# Altium schematic symbol library NXP系列单片机.SchLib: 1 symbol
Pins are listed as number, name and electrical type; pins without a type are passive.

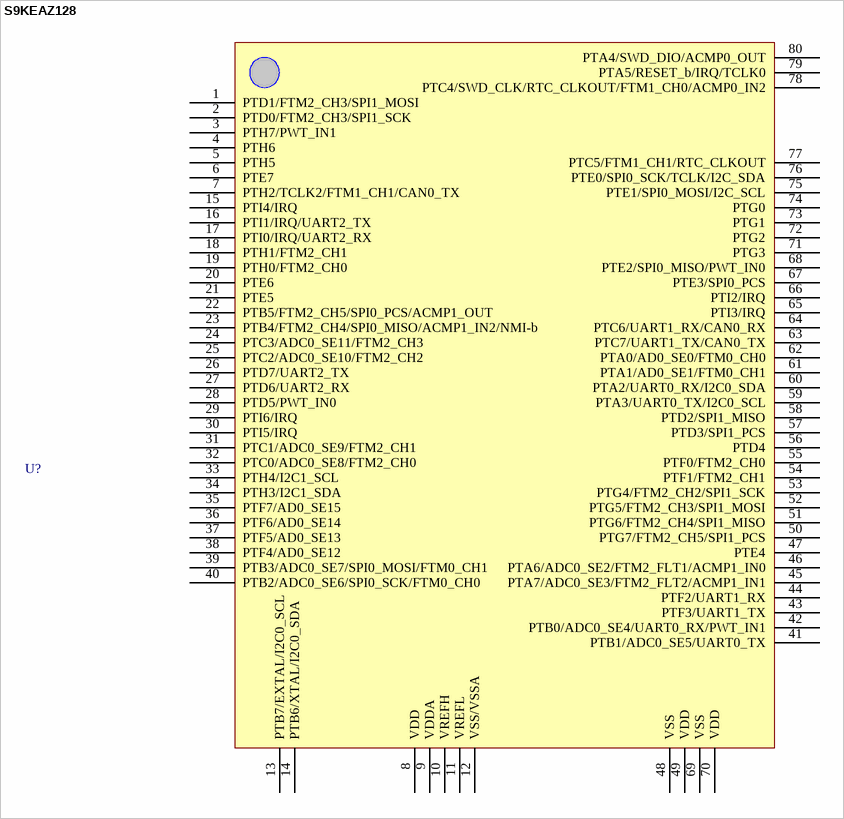
[diagram p0: symbol S9KEAZ128]

## S9KEAZ128
designator U?  (value not drawn)
32恩智浦单片机
footprint LQFP80 14x14_L (80脚，体宽14x14mm，脚距0.65mm)
pins: 1 PTD1/FTM2_CH3/SPI1_MOSI, 2 PTD0/FTM2_CH3/SPI1_SCK, 3 PTH7/PWT_IN1, 4 PTH6, 5 PTH5, 6 PTE7, 7 PTH2/TCLK2/FTM1_CH1/CAN0_TX, 8 VDD, 9 VDDA, 10 VREFH, 11 VREFL, 12 VSS/VSSA, 13 PTB7/EXTAL/I2C0_SCL, 14 PTB6/XTAL/I2C0_SDA, 15 PTI4/IRQ, 16 PTI1/IRQ/UART2_TX, 17 PTI0/IRQ/UART2_RX, 18 PTH1/FTM2_CH1, 19 PTH0/FTM2_CH0, 20 PTE6, 21 PTE5, 22 PTB5/FTM2_CH5/SPI0_PCS/ACMP1_OUT, 23 PTB4/FTM2_CH4/SPI0_MISO/ACMP1_IN2/NMI-b, 24 PTC3/ADC0_SE11/FTM2_CH3, 25 PTC2/ADC0_SE10/FTM2_CH2, 26 PTD7/UART2_TX, 27 PTD6/UART2_RX, 28 PTD5/PWT_IN0, 29 PTI6/IRQ, 30 PTI5/IRQ, 31 PTC1/ADC0_SE9/FTM2_CH1, 32 PTC0/ADC0_SE8/FTM2_CH0, 33 PTH4/I2C1_SCL, 34 PTH3/I2C1_SDA, 35 PTF7/AD0_SE15, 36 PTF6/AD0_SE14, 37 PTF5/AD0_SE13, 38 PTF4/AD0_SE12, 39 PTB3/ADC0_SE7/SPI0_MOSI/FTM0_CH1, 40 PTB2/ADC0_SE6/SPI0_SCK/FTM0_CH0, 41 PTB1/ADC0_SE5/UART0_TX, 42 PTB0/ADC0_SE4/UART0_RX/PWT_IN1, 43 PTF3/UART1_TX, 44 PTF2/UART1_RX, 45 PTA7/ADC0_SE3/FTM2_FLT2/ACMP1_IN1, 46 PTA6/ADC0_SE2/FTM2_FLT1/ACMP1_IN0, 47 PTE4, 48 VSS, 49 VDD, 50 PTG7/FTM2_CH5/SPI1_PCS, 51 PTG6/FTM2_CH4/SPI1_MISO, 52 PTG5/FTM2_CH3/SPI1_MOSI, 53 PTG4/FTM2_CH2/SPI1_SCK, 54 PTF1/FTM2_CH1, 55 PTF0/FTM2_CH0, 56 PTD4, 57 PTD3/SPI1_PCS, 58 PTD2/SPI1_MISO, 59 PTA3/UART0_TX/I2C0_SCL, 60 PTA2/UART0_RX/I2C0_SDA, 61 PTA1/AD0_SE1/FTM0_CH1, 62 PTA0/AD0_SE0/FTM0_CH0, 63 PTC7/UART1_TX/CAN0_TX, 64 PTC6/UART1_RX/CAN0_RX, 65 PTI3/IRQ, 66 PTI2/IRQ, 67 PTE3/SPI0_PCS, 68 PTE2/SPI0_MISO/PWT_IN0, 69 VSS, 70 VDD, 71 PTG3, 72 PTG2, 73 PTG1, 74 PTG0, 75 PTE1/SPI0_MOSI/I2C_SCL, 76 PTE0/SPI0_SCK/TCLK/I2C_SDA, 77 PTC5/FTM1_CH1/RTC_CLKOUT, 78 PTC4/SWD_CLK/RTC_CLKOUT/FTM1_CH0/ACMP0_IN2, 79 PTA5/RESET_b/IRQ/TCLK0, 80 PTA4/SWD_DIO/ACMP0_OUT